# Altium schematic symbol library SCH - PASSIVES - INDUCTOR 744235900.SCHLIB: 1 symbol
Pins are listed as number, name and electrical type; pins without a type are passive.

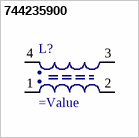
[diagram p0: symbol 744235900]

## 744235900
designator L?
SMD Shielded Coupled Inductor WE-CNSW, Z=90 Ohm
pins: 1, 2, 3, 4